# Altium schematic symbol library 74HC04.SchLib: 1 symbol
Pins are listed as number, name and electrical type; pins without a type are passive.

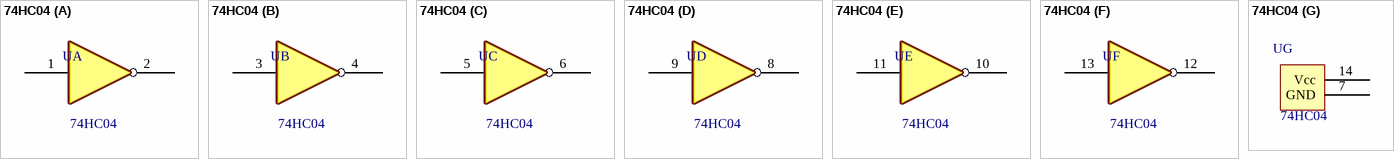
[diagram p0: symbol 74HC04]

## 74HC04
designator U  value 74HC04  (hidden comment: *)
Manufacturer Code: CD74HC04M; Manufacturer: Texas Instruments; Farnell Code: 1103154; Unit Price: 0,65 €
footprint SO14
part A pins: 1, 2
part B pins: 3, 4
part C pins: 5, 6
part D pins: 8, 9
part E pins: 10, 11
part F pins: 12, 13
part G pins: 7 GND, 14 Vcc